# EAGLE library part CH340 (library ch340)
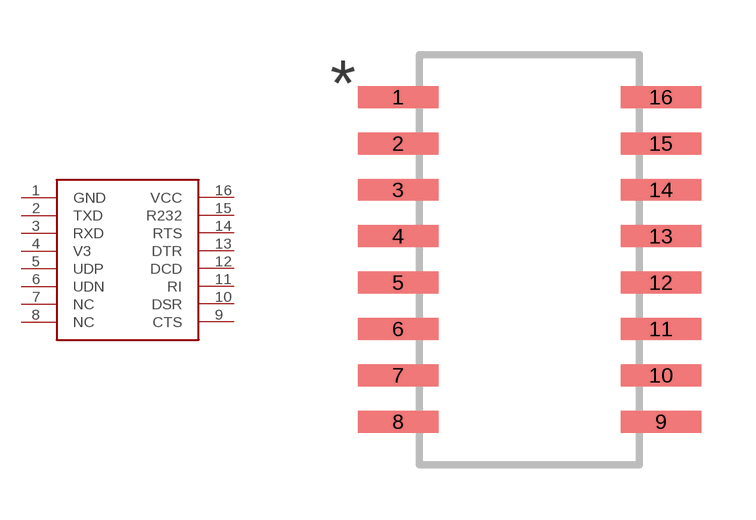
[diagram p0: symbol with the pads of SOP16; footprint SOP16]

Designator prefix -

## CH340  [SOP16]
1  GND
2  TXD
3  RXD
4  V3
5  UDP
6  UDN
7  NC
8  NC
9  CTS
10  DSR
11  RI
12  DCD
13  DTR
14  RTS
15  R232
16  VCC

## Footprint SOP16 (pad centres in mm)
SMALL OUTLINE PACKAGE
smd 2.2 x 0.6: 1 -3.6,4.445; 2 -3.6,3.175; 3 -3.6,1.905; 4 -3.6,0.635; 5 -3.6,-0.635; 6 -3.6,-1.905; 7 -3.6,-3.175; 8 -3.6,-4.445; 9 3.6,-4.445; 10 3.6,-3.175; 11 3.6,-1.905; 12 3.6,-0.635; 13 3.6,0.635; 14 3.6,1.905; 15 3.6,3.175; 16 3.6,4.445